# Altium schematic symbol library ADS1263.SchLib: 1 symbol
Pins are listed as number, name and electrical type; pins without a type are passive.

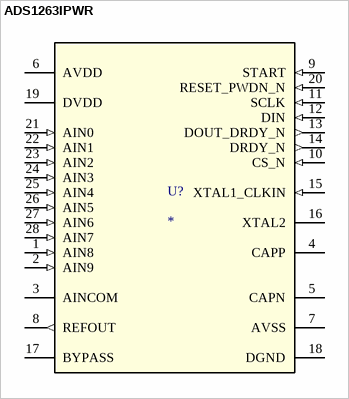
[diagram p0: symbol ADS1263IPWR]

## ADS1263IPWR
designator U?
32-Bit, Precision, 38-kSPS, Analog-to-Digital Converter (ADC) with Programmable Gain Amplifier (PGA) and Voltage Reference; PartNumber: ADS1263IPWR; Manufacturer: Texas Instruments; RefDes: RefDes; TYPE: TYPE; Value: Value
footprint PW0028A_N
pins: 1 AIN8 (in), 2 AIN9 (in), 3 AINCOM, 4 CAPP, 5 CAPN, 6 AVDD (power), 7 AVSS (power), 8 REFOUT (out), 9 START (in), 10 CS_N (in), 11 SCLK (in), 12 DIN (in), 13 DOUT_DRDY_N (out), 14 DRDY_N (out), 15 XTAL1_CLKIN (in), 16 XTAL2, 17 BYPASS, 18 DGND (power), 19 DVDD (power), 20 RESET_PWDN_N (in), 21 AIN0 (in), 22 AIN1 (in), 23 AIN2 (in), 24 AIN3 (in), 25 AIN4 (in), 26 AIN5 (in), 27 AIN6 (in), 28 AIN7 (in)